# EAGLE library part CONNECTOR (library president_george)
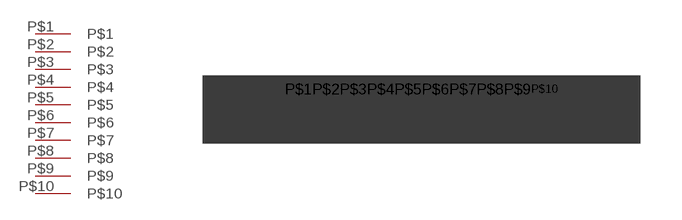
[diagram p1: symbol with the pads of CONNECTOR; footprint CONNECTOR]

Designator prefix -

## CONNECTOR  [CONNECTOR]
P$1  P$1
P$2  P$2
P$3  P$3
P$4  P$4
P$5  P$5
P$6  P$6
P$7  P$7
P$8  P$8
P$9  P$9
P$10  P$10

## Footprint CONNECTOR (pad centres in mm)
drill 0.4: P$1 -4.5,0; P$2 -3.5,0; P$3 -2.5,0; P$4 -1.5,0; P$5 -0.5,0; P$6 0.5,0; P$7 1.5,0; P$8 2.5,0; P$9 3.5,0; P$10 4.5,0